# EAGLE library part LL5402 (library lundahl)
LL5402 Transformer
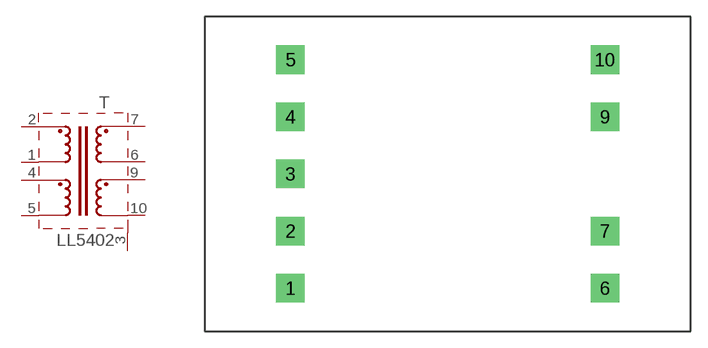
[diagram p12: symbol with the pads of LL5402; footprint LL5402]

Designator prefix T

## LL5402  [LL5402]
1  1  pas
2  2  pas
3  3  pas
4  4  pas
5  5  pas
6  6  pas
7  7  pas
9  9  pas
10  10  pas

## Footprint LL5402 (pad centres in mm)
LL5402
drill 1.27 pad 2.54 square: 1 -13.97,-10.16; 2 -13.97,-5.08; 3 -13.97,0; 4 -13.97,5.08; 5 -13.97,10.16; 6 13.97,-10.16; 7 13.97,-5.08; 9 13.97,5.08; 10 13.97,10.16